# Altium footprint library Generic.PcbLib: 5 footprints
Each footprint in its own frame and in the unit in brackets; x right, y up, seen from the top. Pads: shape width x height; smd on the part's side, far side on the other; paste and mask are expansions set on the pad; w line width, h text height; cw(c..) or ccw(c..) is an arc to the next point about the centre after c.
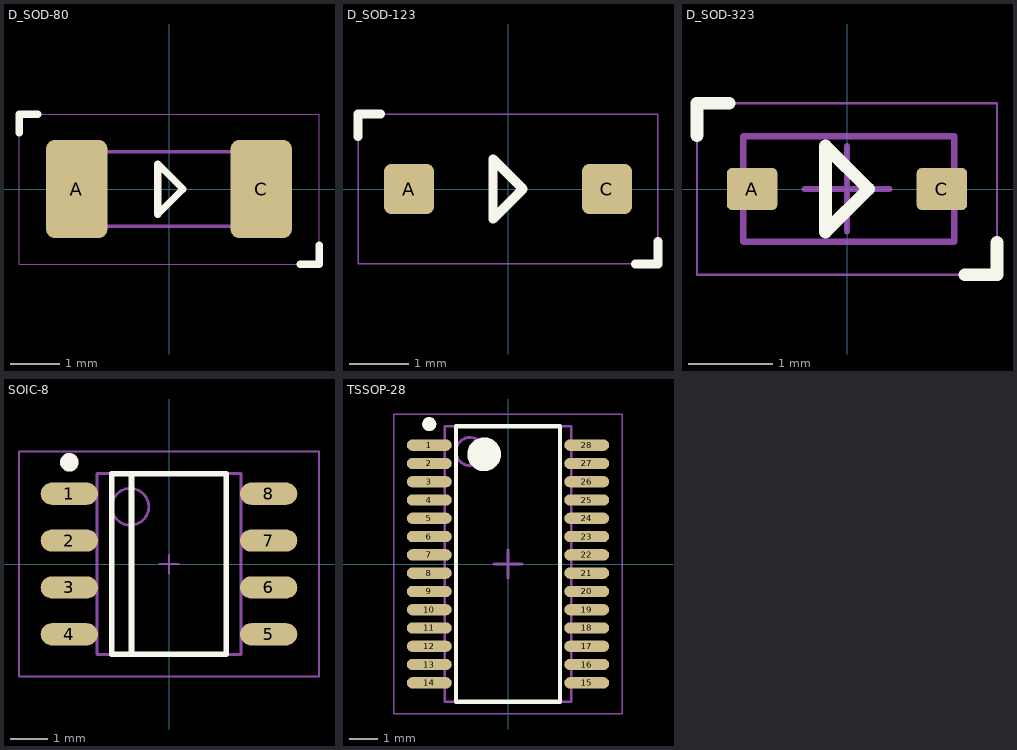
[diagram p0: the footprints below, top view; thin cyan lines are the x and y axes]

## D_SOD-80 [mm] "MiniMELF/SOD-80 Diode [Vishay]"
pads (2):
  rrect30% 1.25x2 smd: A(-1.875,0) C(1.875,0)
Top Overlay:
  lines w0.152: -3.048,1.143 -3.048,1.524 -2.667,1.524 ; 2.667,-1.524 3.048,-1.524 3.048,-1.143 ; -0.224,-0.508 0.284,0 -0.224,0.508 -0.224,-0.508
Mechanical 13:
  lines w0.076: -1.729,-0.755 1.73,-0.755 1.73,0.755 -1.729,0.755 -1.729,-0.755
Mechanical 15:
  lines w0.025: -3.048,-1.524 3.048,-1.524 3.048,1.524 -3.048,1.524 -3.048,-1.524
3D body "D_SOD-80.STEP": height 1.52, standoff 0.01, extent -1.73,-0.755 1.73,0.755

## D_SOD-123 [mm] "SOD-123 Diode [Vishay]"
pads (2):
  rrect30% 0.85x0.85 smd: A(-1.675,0) C(1.675,0)
Top Overlay:
  lines w0.152: -2.54,0.889 -2.54,1.27 -2.159,1.27 ; 2.159,-1.27 2.54,-1.27 2.54,-0.889 ; -0.254,-0.508 0.254,0 -0.254,0.508 -0.254,-0.508
Mechanical 15:
  lines w0.025: -2.54,-1.27 -2.54,1.27 2.54,1.27 2.54,-1.27 -2.54,-1.27
3D body "D_SOD-123.STEP": height 1.46, standoff 0.01, extent -1.925,-0.889 1.925,0.811

## D_SOD-323 [mm] "Diode SOD-323"
height 1.1
pads (2):
  rrect25% 0.6x0.5 smd: A(-1.125,0) C(1.125,0)
Top Overlay:
  lines w0.152: -1.778,0.635 -1.778,1.016 -1.397,1.016 ; 1.397,-1.016 1.778,-1.016 1.778,-0.635 ; -0.254,-0.508 -0.254,0.508 0.254,0 -0.254,-0.508
Mechanical 13:
  lines w0.076: -1.23,-0.625 -1.23,0.625 1.27,0.625 1.27,-0.625 -1.23,-0.625
Mechanical 15:
  lines w0.025: -1.778,-1.016 1.778,-1.016 1.778,1.016 -1.778,1.016 -1.778,-1.016
  lines w0.076: -0.5,0 0.5,0 ; 0,-0.5 0,0.508
3D body "D_SOD-323.step": height 1, standoff 0.01, extent -1.23,-0.625 1.27,0.625

## SOIC-8 [mm]
height 1.75
pads (8):
  oval 1.55x0.6 smd: 1(-2.7,1.905) 2(-2.7,0.635) 3(-2.7,-0.635) 4(-2.7,-1.905) 5(2.7,-1.905) 6(2.7,-0.635) 7(2.7,0.635) 8(2.7,1.905)
Top Overlay:
  circle w0.254: c-2.7,2.755 r0.125
  lines w0.152: -1.016,-2.45 -1.016,2.45 ; -1.55,-2.45 1.55,-2.45 1.55,2.45 -1.55,2.45 -1.55,-2.45
Mechanical 13:
  circle w0.076: c-1.05,1.55 r0.5
  lines w0.076: -1.95,-2.45 1.95,-2.45 1.95,2.45 -1.95,2.45 -1.95,-2.45
Mechanical 15:
  lines w0.051: -0.254,0 0.254,0 ; 0,-0.254 0,0.246 ; -4.064,-3.048 4.064,-3.048 4.064,3.048 -4.064,3.048 -4.064,-3.048
3D body "M41T81SM6F.STEP": height 1.75, standoff 0, extent -3,-2.45 3,2.45

## TSSOP-28 [mm]
height 1.2
pads (28):
  oval 1.6x0.4 smd: 1(-2.8,4.225) 2(-2.8,3.575) 3(-2.8,2.925) 4(-2.8,2.275) 5(-2.8,1.625) 6(-2.8,0.975) 7(-2.8,0.325) 8(-2.8,-0.325) 9(-2.8,-0.975) 10(-2.8,-1.625) 11(-2.8,-2.275) 12(-2.8,-2.925) 13(-2.8,-3.575) 14(-2.8,-4.225) 15(2.8,-4.225) 16(2.8,-3.575) 17(2.8,-2.925) 18(2.8,-2.275) 19(2.8,-1.625) 20(2.8,-0.975) 21(2.8,-0.325) 22(2.8,0.325) 23(2.8,0.975) 24(2.8,1.625) 25(2.8,2.275) 26(2.8,2.925) 27(2.8,3.575) 28(2.8,4.225)
Top Overlay:
  circle w0.6: c-0.85,3.9 r0.3
  circle w0.25: c-2.8,4.975 r0.125
  lines w0.152: -1.85,-4.9 1.85,-4.9 1.85,4.9 -1.85,4.9 -1.85,-4.9
Mechanical 13:
  circle w0.1: c-1.35,4 r0.5
  lines w0.1: -2.25,-4.9 2.25,-4.9 2.25,4.9 -2.25,4.9 -2.25,-4.9
Mechanical 15:
  lines w0.05: -4.064,-5.334 4.064,-5.334 4.064,5.334 -4.064,5.334 -4.064,-5.334
  lines w0.1: -0.5,0 0.5,0 ; 0,-0.5 0,0.5
3D body "TSSOP-28.step": height 1.2, standoff 0, extent -3.2,-4.9 3.2,4.9